# Altium schematic symbol library LM2902LV-Q1.SchLib: 1 symbol
Pins are listed as number, name and electrical type; pins without a type are passive.

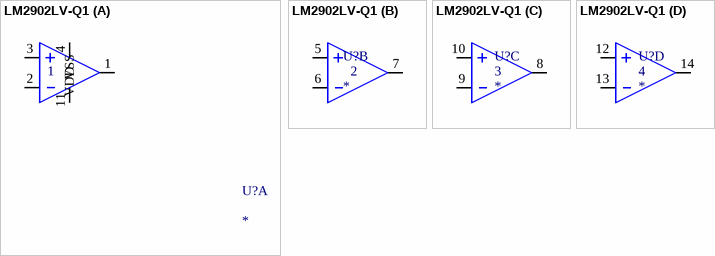
[diagram p0: symbol LM2902LV-Q1]

## LM2902LV-Q1
designator U?
part A pins: 1, 2, 3, 4 VDD (power), 11 VSS (power)
part B pins: 5, 6, 7
part C pins: 8, 9, 10
part D pins: 12, 13, 14